# Altium footprint library AC_IN.PcbLib: 1 footprints
Each footprint in its own frame and in the unit in brackets; x right, y up, seen from the top. Pads: shape width x height; smd on the part's side, far side on the other; paste and mask are expansions set on the pad; w line width, h text height; cw(c..) or ccw(c..) is an arc to the next point about the centre after c.
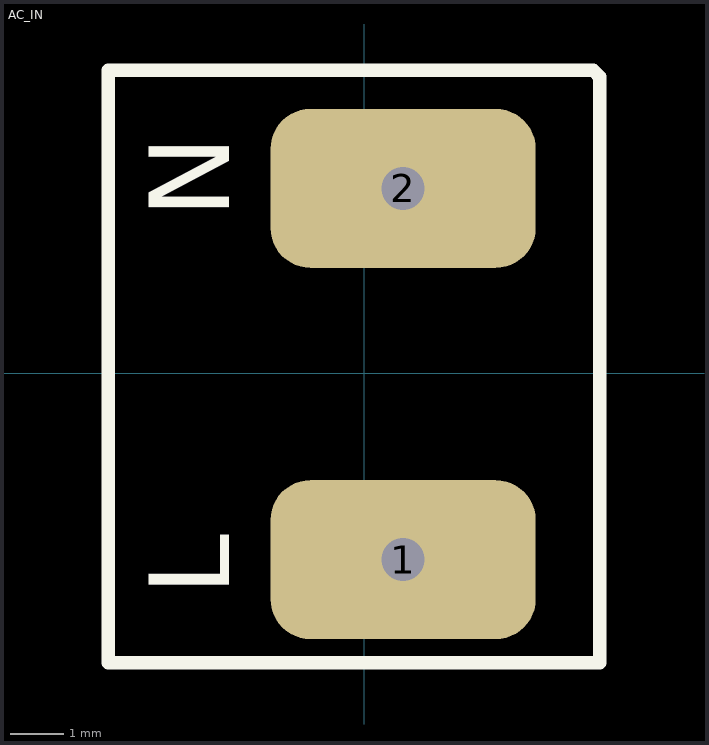
[diagram p0: the footprint, top view; thin cyan lines are the x and y axes]

## AC_IN [mm]
pads (2):
  rrect50% 5x3 hole 0.813: 1(0.735,-3.513) 2(0.735,3.487)
Top Overlay:
  lines w0.254: -4.826,-5.461 4.445,-5.461 4.445,5.588 4.318,5.715 -4.445,5.715 -4.826,5.715 -4.826,-5.461
  text "L" at -2.54,-4.191 h1.52
  text "N" at -2.54,2.921 h1.52